# EAGLE library part RAZOR_IMU (library High Ball Library)
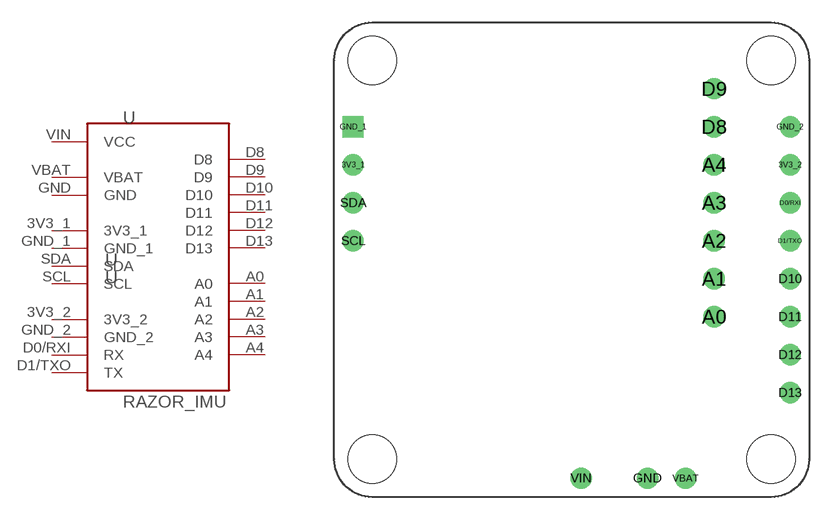
[diagram p0: symbol with the pads of RAZOR_IMU; footprint RAZOR_IMU]

Designator prefix -

## RAZOR_IMU  [RAZOR_IMU]
3V3_1  3V3_1
3V3_2  3V3_2
A0  A0
A1  A1
A2  A2
A3  A3
A4  A4
D0/RXI  RX
D1/TXO  TX
D8  D8
D9  D9
D10  D10
D11  D11
D12  D12
D13  D13
GND  GND
GND_1  GND_1
GND_2  GND_2
SCL  SCL
SDA  SDA
VBAT  VBAT
VIN  VCC

## Footprint RAZOR_IMU (pad centres in mm)
drill 0.9: 3V3_1 1.27,22.225; 3V3_2 30.48,22.225; A0 25.4,12.065; A1 25.4,14.605; A2 25.4,17.145; A3 25.4,19.685; A4 25.4,22.225; D0/RXI 30.48,19.685; D1/TXO 30.48,17.145; D8 25.4,24.765; D9 25.4,27.305; D10 30.48,14.605; D11 30.48,12.065; D12 30.48,9.525; D13 30.48,6.985; GND 20.955,1.27; GND_2 30.48,24.765; SCL 1.27,17.145; SDA 1.27,19.685; VBAT 23.495,1.27; VIN 16.51,1.27
drill 0.9 square: GND_1 1.27,24.765
hole 3.264 at 2.54,2.54
hole 3.264 at 29.21,2.54
hole 3.264 at 29.21,29.21
hole 3.264 at 2.54,29.21